# Altium footprint library WS2812B-2020.PcbLib: 1 footprints
Each footprint in its own frame and in the unit in brackets; x right, y up, seen from the top. Pads: shape width x height; smd on the part's side, far side on the other; paste and mask are expansions set on the pad; w line width, h text height; cw(c..) or ccw(c..) is an arc to the next point about the centre after c.
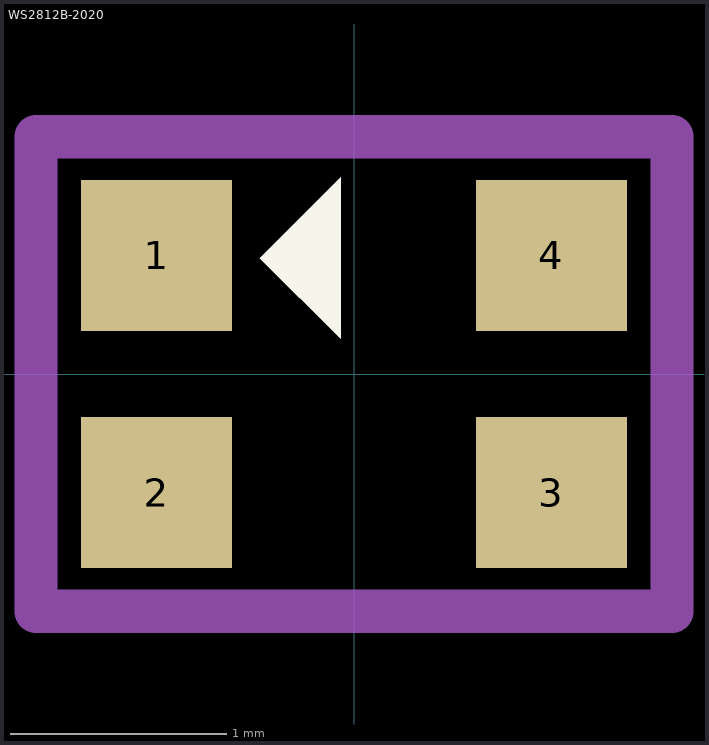
[diagram p0: the footprint, top view; thin cyan lines are the x and y axes]

## WS2812B-2020 [mm]
pads (4):
  rect 0.7x0.7 smd: 1(-0.915,0.55) 2(-0.915,-0.55) 3(0.915,-0.55) 4(0.915,0.55)
Top Overlay:
  region: -0.062,0.162 -0.062,0.912 -0.063,0.912 -0.437,0.537
Top Assembly:
  lines w0.2: -1.475,-1.1 -1.475,1.1 1.475,1.1 1.475,-1.1 -1.475,-1.1
  text "'.Designator'" at -0.925,-0.35 h0.7
3D body "WS2812B-2020.stp": height 0.84, standoff -0.01, extent -1.1,-1 1.1,1